# Altium footprint library PCW1DC24KAB104L.PcbLib: 1 footprints
Each footprint in its own frame and in the unit in brackets; x right, y up, seen from the top. Pads: shape width x height; smd on the part's side, far side on the other; paste and mask are expansions set on the pad; w line width, h text height; cw(c..) or ccw(c..) is an arc to the next point about the centre after c.
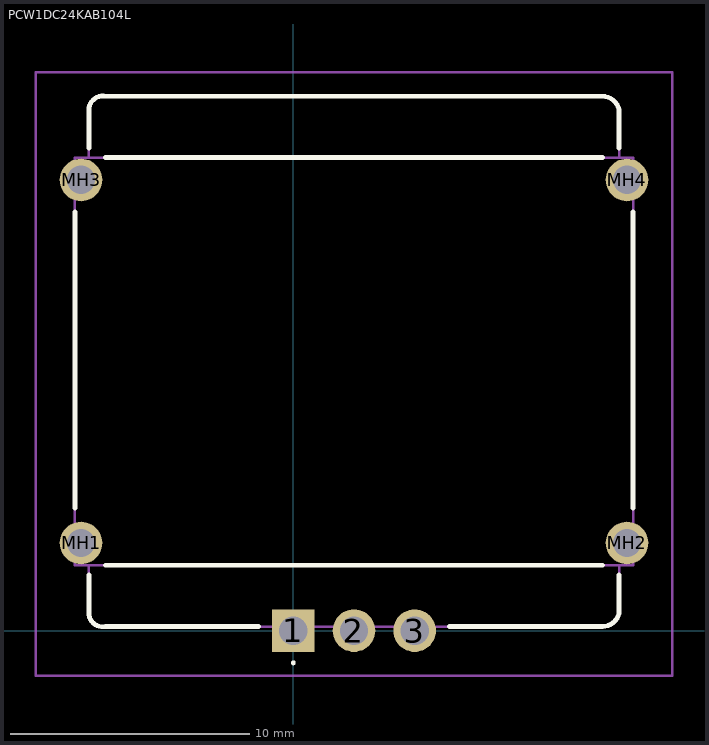
[diagram p0: the footprint, top view; thin cyan lines are the x and y axes]

## PCW1DC24KAB104L [mm]
pads (7):
  rect 1.785x1.785 hole 1.19: 1(0,0)
  round 1.785 hole 1.19: 2(2.54,0) 3(5.08,0) MH1(-8.89,3.67) MH2(13.97,3.67) MH3(-8.89,18.87) MH4(13.97,18.87)
Top Overlay:
  lines w0.1: 0,-1.4 0,-1.4 ; 0,-1.4 ccw(c0,-1.35) 0,-1.3 ; 0,-1.4 cw(c0,-1.35) 0,-1.3 ; 0,-1.3 0,-1.3
  lines w0.2: -9.145,5.135 -9.145,17.535 ; -8.56,2.335 -8.56,0.735 ; -8.56,20.205 -8.56,21.805 ; -7.86,2.735 12.94,2.735 ; -7.86,19.805 12.94,19.805 ; -1.46,0.17 -7.86,0.17 cw(c-7.982,0.735) -8.56,0.735 ; 6.54,0.17 12.94,0.17 ; 13.64,0.735 cw(c12.94,0.886) 12.94,0.17 ; 13.64,0.735 13.64,2.335 ; 13.64,20.205 13.64,21.805 ; 13.64,21.805 ccw(c12.94,21.654) 12.94,22.37 ; 14.225,5.135 14.225,17.535 ; -8.56,0.735 -8.56,0.735 ; -8.56,21.805 -8.56,21.805 ; -8.56,21.805 cw(c-7.982,21.805) -7.86,22.37 12.94,22.37 ; 12.94,0.17 12.94,0.17 ; 12.94,22.37 12.94,22.37
Mechanical 15:
  lines w0.1: -8.56,2.735 -8.56,0.735 ; -8.56,19.805 -8.56,21.805 ; 13.64,0.735 cw(c12.94,0.886) 12.94,0.17 ; 13.64,0.735 13.64,2.735 ; 13.64,19.805 13.64,21.805 ; 13.64,21.805 ccw(c12.94,21.654) 12.94,22.37 ; -8.56,0.735 -8.56,0.735 ; -8.56,0.735 ccw(c-7.982,0.735) -7.86,0.17 12.94,0.17 ; -8.56,21.805 -8.56,21.805 ; -8.56,21.805 cw(c-7.982,21.805) -7.86,22.37 12.94,22.37 ; 12.94,0.17 12.94,0.17 ; 12.94,22.37 12.94,22.37 ; -9.145,2.735 14.225,2.735 14.225,19.805 -9.145,19.805 -9.145,2.735
Mechanical 20:
  lines w0.1: -10.782,-1.893 15.863,-1.893 15.863,23.383 -10.782,23.383 -10.782,-1.893